# EAGLE library part TDA8588XJ (library Audio-Power-amlifier V.2.0)
I2C-bus controlled 4 ´ 50 Watt power amplifier and multiple voltage regulator
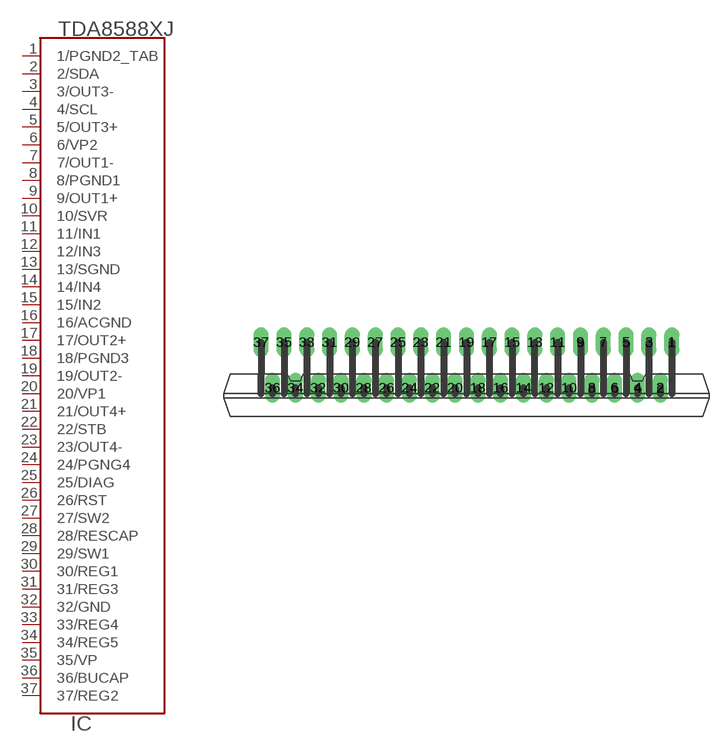
[diagram p226: symbol with the pads of SOT725-1; footprint SOT725-1]

Designator prefix IC

## TDA8588XJ  [SOT725-1]
1  1/PGND2_TAB  pwr
2  2/SDA  out
3  3/OUT3-  out
4  4/SCL  in
5  5/OUT3+  out
6  6/VP2  pwr
7  7/OUT1-  out
8  8/PGND1  pwr
9  9/OUT1+  out
10  10/SVR
11  11/IN1  in
12  12/IN3  in
13  13/SGND  pwr
14  14/IN4  in
15  15/IN2  in
16  16/ACGND  pwr
17  17/OUT2+  out
18  18/PGND3  pwr
19  19/OUT2-  out
20  20/VP1  pwr
21  21/OUT4+  out
22  22/STB  in
23  23/OUT4-  out
24  24/PGNG4  pwr
25  25/DIAG  out
26  26/RST  out
27  27/SW2  out
28  28/RESCAP
29  29/SW1  in
30  30/REG1  out
31  31/REG3  out
32  32/GND  pwr
33  33/REG4  out
34  34/REG5  out
35  35/VP  pwr
36  36/BUCAP  in
37  37/REG2  out

## Footprint SOT725-1 (pad centres in mm)
drill 0.8 long: 1 18,4; 2 17,0; 3 16,4; 4 15,0; 5 14,4; 6 13,0; 7 12,4; 8 11,0; 9 10,4; 10 9,0; 11 8,4; 12 7,0; 13 6,4; 14 5,0; 15 4,4; 16 3,0; 17 2,4; 18 1,0; 19 0,4; 20 -1,0; 21 -2,4; 22 -3,0; 23 -4,4; 24 -5,0; 25 -6,4; 26 -7,0; 27 -8,4; 28 -9,0; 29 -10,4; 30 -11,0; 31 -12,4; 32 -13,0; 33 -14,4; 34 -15,0; 35 -16,4; 36 -17,0; 37 -18,4